# EAGLE library part LM2576SX-3.3_NOPB (library LM2576SX-3.3_NOPB)
Switching Voltage Regulators 3A SD VTG Reg Source: Datasheet <http://www.ti.com/lit/gpn/lm2576>
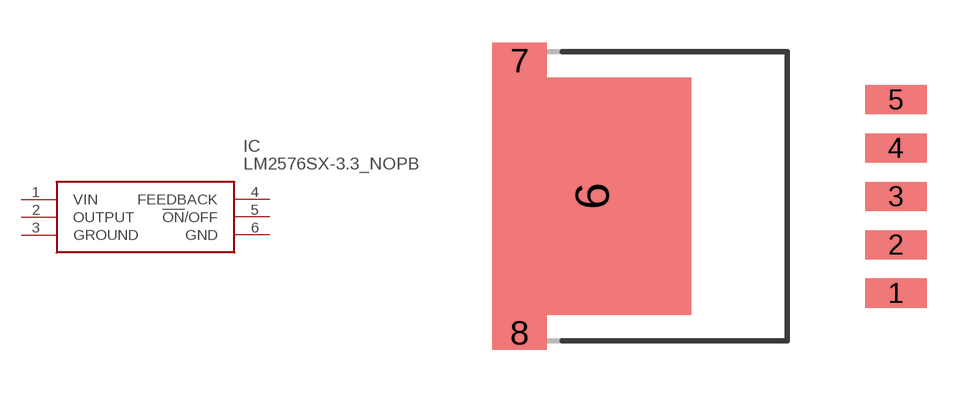
[diagram p0: symbol with the pads of KTT0005B; footprint KTT0005B]

Designator prefix IC

## LM2576SX-3.3_NOPB (Description: Switching Voltage Regulators 3A SD VTG Reg; Height: mm; Manufacturer_Name: Texas Instruments; Manufacturer_Part_Number: LM2576SX-3.3/NOPB)  [KTT0005B]
1  VIN
2  OUTPUT
3  GROUND
4  FEEDBACK
5  !ON!/OFF
6  GND

## Footprint KTT0005B (pad centres in mm)
KTT0005B
smd 2.16 x 1.02: 1 12.461,-3.4; 2 12.461,-1.7; 3 12.461,0; 4 12.461,1.7; 5 12.461,3.4
smd 6.99 x 8.33: 6 1.786,0
smd 1.91 x 1.235: 7 -0.754,4.782; 8 -0.754,-4.782